# Altium footprint library Daxxn_Switches.PcbLib: 22 footprints (part 2 of 2)
Each footprint in its own frame and in the unit in brackets; x right, y up, seen from the top. Pads: shape width x height; smd on the part's side, far side on the other; paste and mask are expansions set on the pad; w line width, h text height; cw(c..) or ccw(c..) is an arc to the next point about the centre after c.
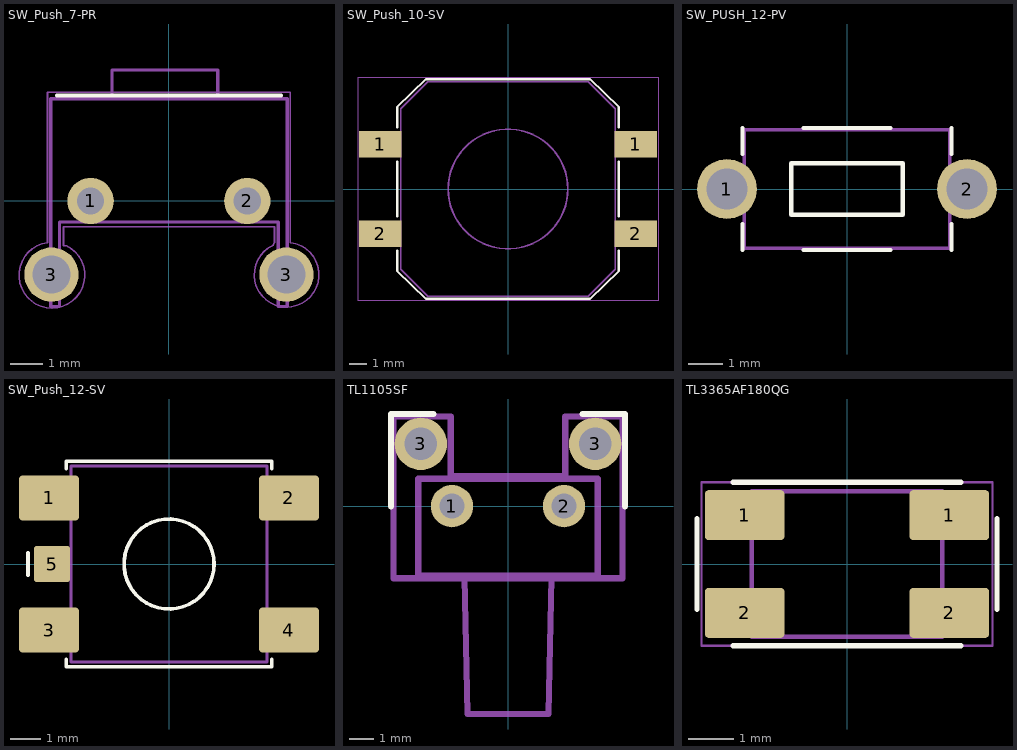
[diagram p1: the footprints below, top view; thin cyan lines are the x and y axes]

## SW_Push_7-PR [mm]
pads (4):
  round 1.45 hole 0.85: 1(-2.45,0) 2(2.45,0)
  round 1.7 hole 1.2: 3(-3.675,-2.3) 3(3.675,-2.3)
F.SilkS:
  lines w0.12: -3.5,3.3 3.5,3.3
F.CrtYd:
  lines w0.05: -3.8,-1.3 -3.8,3.4 3.8,3.4 3.8,-1.3 cw(c3.681,-2.306) 3.266,-1.382 3.3,-1.3 3.3,-0.8 -3.3,-0.8 -3.3,-1.4 -3.2,-1.4 cw(c-3.662,-2.32) -3.8,-1.3
F.Fab:
  lines w0.1: -1.778,3.2 -1.778,4.1 1.524,4.1 1.524,3.2 ; -3.7,-3.302 -3.7,-0.66 -3.7,3.2 3.7,3.2 3.7,-0.66 3.7,-3.302 3.42,-3.302 3.42,-0.66 -3.42,-0.66 -3.42,-3.302 -3.7,-3.302
  text "'.Designator'" at -4.047,-0.74 h1

## SW_Push_10-SV [mm]
pads (4):
  rect 2.4x1.5 smd: 1(-7.15,2.5) 1(7.15,2.5) 2(-7.15,-2.5) 2(7.15,-2.5)
F.SilkS:
  lines w0.12: -6.2,-3.45 -6.2,-4.6 -4.6,-6.15 4.6,-6.15 6.2,-4.6 6.2,-3.45 ; -6.2,-1.55 -6.2,1.55 ; -6.2,3.45 -6.2,4.6 -4.6,6.15 4.6,6.15 6.2,4.6 6.2,3.45 ; 6.2,-1.55 6.2,1.55
F.CrtYd:
  lines w0.05: -8.4,-6.25 -8.4,6.25 8.4,6.25 8.4,-6.25 -8.4,-6.25
F.Fab:
  circle w0.1: c0,0 r3.35
  lines w0.1: -6,-4.5 -6,4.5 -4.5,6 4.5,6 6,4.5 6,-4.5 4.5,-6 -4.5,-6 -6,-4.5
  text "'.Designator'" at -4.047,-0.84 h1

## SW_PUSH_12-PV [mm]
pads (2):
  round 1.75 hole 1.2: 1(-3.5,0) 2(3.5,0)
F.SilkS:
  lines w0.12: -3.048,-1.778 -3.048,-1.016 ; -3.048,1.016 -3.048,1.778 ; -1.27,-1.778 1.27,-1.778 ; -1.27,1.778 1.27,1.778 ; 3.048,-1.778 3.048,-1.016 ; 3.048,1.016 3.048,1.778 ; -1.625,-0.75 -1.625,0.75 1.625,0.75 1.625,-0.75 -1.625,-0.75
F.Fab:
  lines w0.1: -3,-1.725 -3,1.725 3,1.725 3,-1.725 -3,-1.725
  text "'.Designator'" at -15.299,3.019 h1

## SW_Push_12-SV [mm]
pads (5):
  rrect15% 2x1.5 smd: 1(-4,2.2) 2(4,2.2) 3(-4,-2.2) 4(4,-2.2)
  rrect15% 1.2x1.2 smd: 5(-3.9,0)
F.SilkS:
  circle w0.12: c0,0 r1.5
  lines w0.12: -4.699,-0.381 -4.699,0.381 ; -3.429,-3.175 -3.429,-3.429 3.429,-3.429 3.429,-3.175 ; -3.429,3.175 -3.429,3.429 3.429,3.429 3.429,3.175
F.Fab:
  lines w0.1: -3.275,-3.275 -3.275,3.275 3.275,3.275 3.275,-3.275 -3.275,-3.275
  text "'.Designator'" at -4.96,-4.047 h1

## TL1105SF [mm]
pads (4):
  round 1.7 hole 1: 1(-2.25,0) 2(2.25,0)
  round 2.1 hole 1.3: 3(-3.5,2.5) 3(3.5,2.5)
F.SilkS:
  lines w0.254: -4.7,0 -4.7,3.7 -3,3.7 ; 3,3.7 4.7,3.7 4.7,0
F.CrtYd:
  lines w0.254: -4.6,-2.9 -4.6,3.6 -2.3,3.6 -2.3,1.2 2.3,1.2 2.3,3.6 4.6,3.6 4.6,-2.9 -4.6,-2.9
F.Fab:
  lines w0.254: -3.6,-2.8 -3.6,1.1 3.6,1.1 3.6,-2.8 -3.6,-2.8
  text "'.Designator'" at -1.037,-0.535 h0.25
Cmts.User:
  lines w0.254: -1.75,-2.85 1.75,-2.85 1.625,-8.35 -1.625,-8.35 -1.75,-2.85
  text "Actuator" at 0.225,-6.326 h0.3

## TL3365AF180QG [mm]
pads (4):
  rrect15% 1.75x1.1 smd: 1(-2.25,1.075) 1(2.25,1.075) 2(-2.25,-1.075) 2(2.25,-1.075)
F.SilkS:
  lines w0.12: -3.3,-1 -3.3,1 ; -2.5,-1.8 2.5,-1.8 ; -2.5,1.8 2.5,1.8 ; 3.3,-1 3.3,1
F.CrtYd:
  lines w0.05: -3.2,-1.8 -3.2,1.8 3.2,1.8 3.2,-1.8 -3.2,-1.8
F.Fab:
  lines w0.1: -2.1,-1.6 -2.1,1.6 2.1,1.6 2.1,-1.6 -2.1,-1.6
  text "'.Designator'" at -4.047,-5.34 h1